# EAGLE library part AD9201ARSZ (library AD9201ARSZ)
AD9201ARSZ, 10-Bit Analogue to Digital Converter, Dual, Differential, Parallel, 28-Pin SSOP Source: Datasheet <https://datasheet.datasheetarchive.com/originals/distributors/Datasheets-1/DSA-1861.pdf>
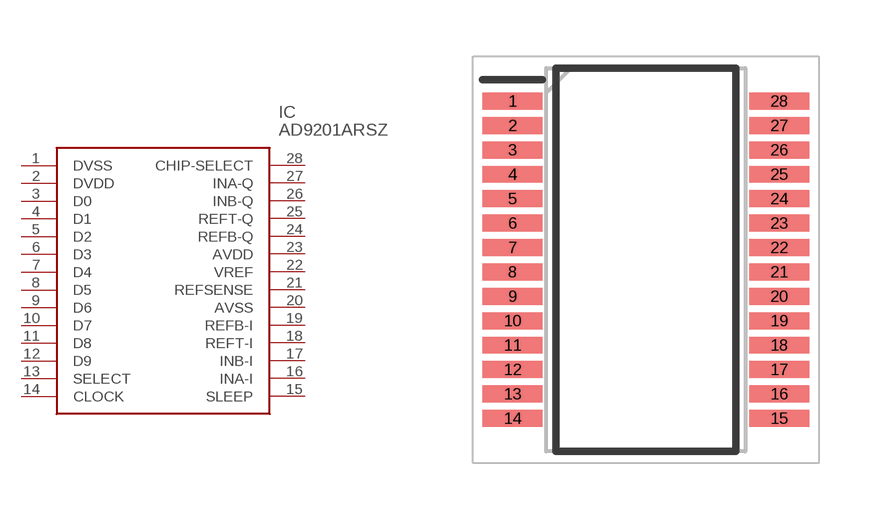
[diagram p0: symbol with the pads of SOP65P777X198-28N; footprint SOP65P777X198-28N]

Designator prefix IC

## AD9201ARSZ (Description: AD9201ARSZ, 10-Bit Analogue to Digital Converter, Dual, Differential, Parallel, 28-Pin SSOP; Height: 1.98mm; Manufacturer_Name: Analog Devices; Manufacturer_Part_Number: AD9201ARSZ; Mouser_Part_Number: 584-AD9201ARSZ; Mouser_Price-Stock: https://www.mouser.co.uk/ProductDetail/Analog-Devices/AD9201ARSZ?qs=%2FtpEQrCGXCzwVkiwZM9tlA%3D%3D)  [SOP65P777X198-28N]
1  DVSS  pwr
2  DVDD  pwr
3  D0
4  D1
5  D2
6  D3
7  D4
8  D5
9  D6
10  D7
11  D8
12  D9
13  SELECT
14  CLOCK  in
15  SLEEP
16  INA-I  in
17  INB-I  in
18  REFT-I  in
19  REFB-I  in
20  AVSS  pwr
21  REFSENSE  in
22  VREF  in
23  AVDD  pwr
24  REFB-Q  in
25  REFT-Q  in
26  INB-Q  in
27  INA-Q  in
28  CHIP-SELECT

## Footprint SOP65P777X198-28N (pad centres in mm)
RS-28 (SSOP)_1
smd 1.6 x 0.45: 1 -3.55,4.225; 2 -3.55,3.575; 3 -3.55,2.925; 4 -3.55,2.275; 5 -3.55,1.625; 6 -3.55,0.975; 7 -3.55,0.325; 8 -3.55,-0.325; 9 -3.55,-0.975; 10 -3.55,-1.625; 11 -3.55,-2.275; 12 -3.55,-2.925; 13 -3.55,-3.575; 14 -3.55,-4.225; 15 3.55,-4.225; 16 3.55,-3.575; 17 3.55,-2.925; 18 3.55,-2.275; 19 3.55,-1.625; 20 3.55,-0.975; 21 3.55,-0.325; 22 3.55,0.325; 23 3.55,0.975; 24 3.55,1.625; 25 3.55,2.275; 26 3.55,2.925; 27 3.55,3.575; 28 3.55,4.225